# Altium schematic symbol library Diode6A10.SchLib: 1 symbol
Pins are listed as number, name and electrical type; pins without a type are passive.

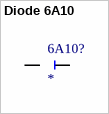
[diagram p0: symbol Diode 6A10]

## Diode 6A10
designator 6A10?
footprint PCBComponent_1
footprint Diode 6A10
pins: 1, 2